# Altium integrated library ST Interface Stepper Motor Controller.IntLib: 19 symbols
Pins are listed as number, name and electrical type; pins without a type are passive.

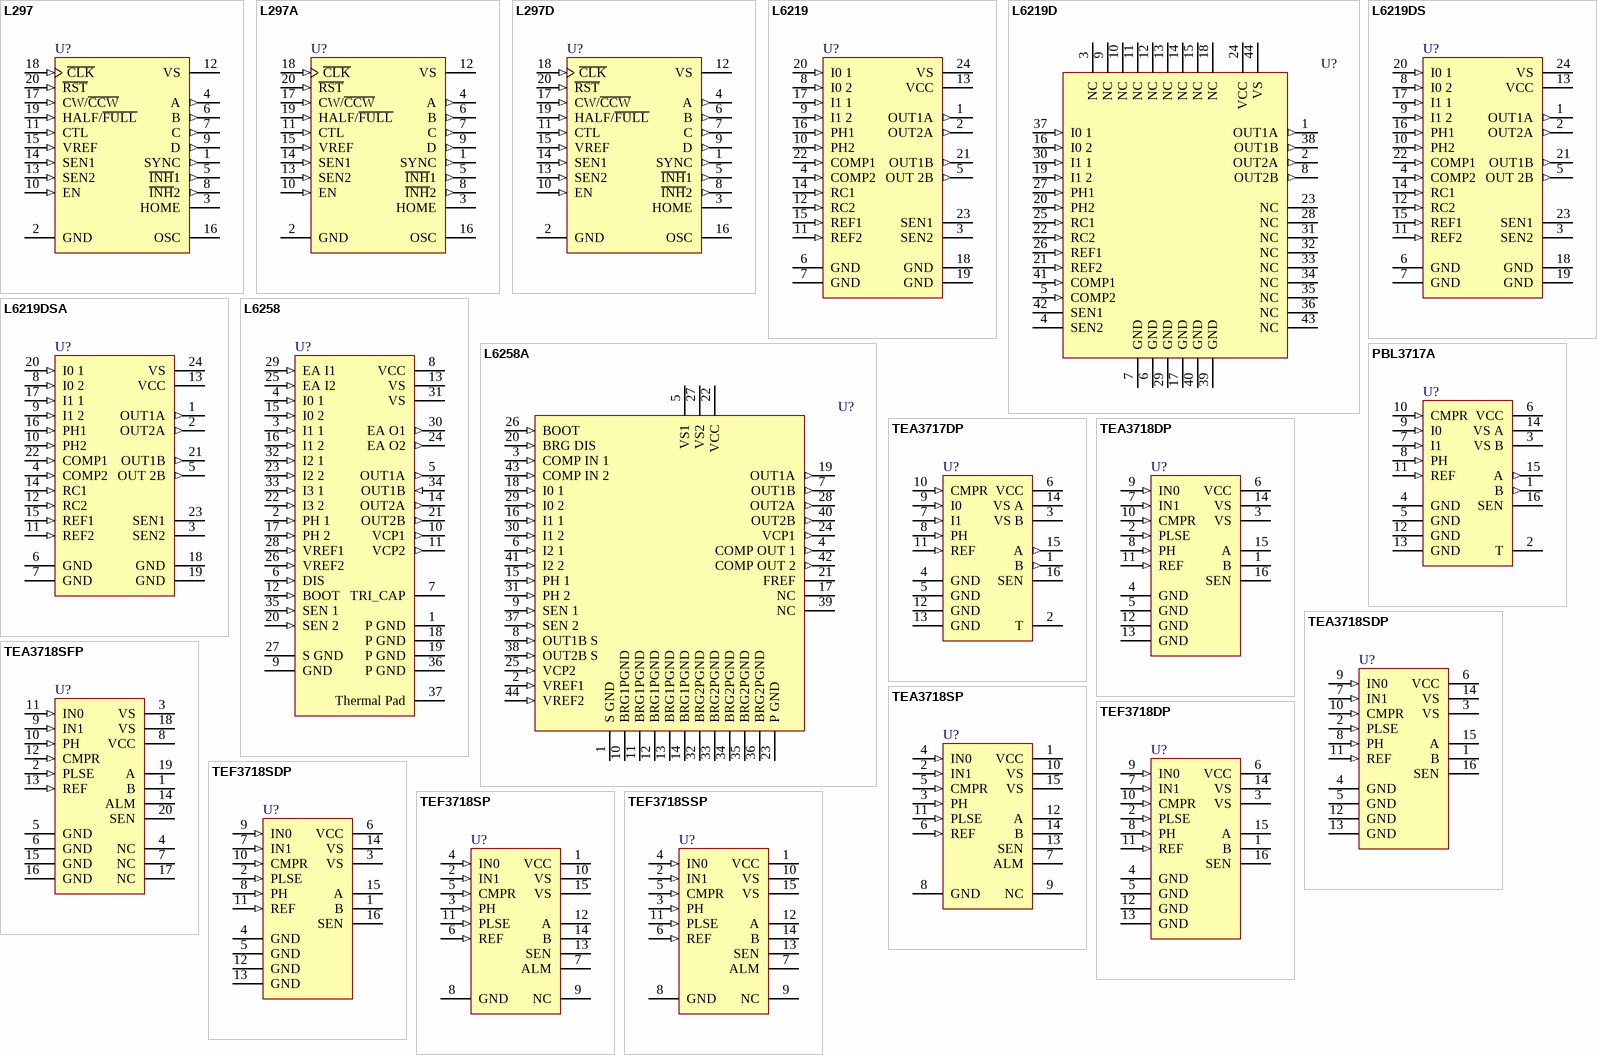
[diagram p0: symbols L297 to TEF3718SSP]

## L297
designator U?
Stepper Motor Controller; Published: 8-Jun-2000; LatestRevisionDate: 06-Jun-2005; LatestRevisionNote: Stylized 3D Model Added.; DatasheetVersion: Aug-1996; PackageVersion: Jun-1998; PackageReference: DIP20; Publisher: Altium Limited; PackageDescription: DIP; 20 Leads; Row Spacing 7.62 mm; Pitch 2.54 mm; Code_JEDEC: MS-015-AE; ComponentLink1Description: Manufacturer Link; ComponentLink1URL: http://www.st.com/; ComponentLink2Description: Datasheet; ComponentLink2URL: http://www.st.com/stonline/products/literature/ds/1334/l297.pdf
footprint DIP20 (DIP; 20 Leads; Row Spacing 7.62 mm; Pitch 2.54 mm)
3D model DIP20 (DIP; 20 Leads; Row Spacing 7.62 mm; Pitch 2.54 mm)
pins: 1 SYNC (out), 2 GND (power), 3 HOME (oc), 4 A (out), 5 ~{INH}1 (out), 6 B (out), 7 C (out), 8 ~{INH}2 (out), 9 D (out), 10 EN (in), 11 CTL (in), 12 VS (power), 13 SEN2 (in), 14 SEN1 (in), 15 VREF (in), 16 OSC, 17 CW/~{CCW} (in), 18 ~{CLK} (in), 19 HALF/~{FULL} (in), 20 ~{RST} (in)

## L297A
designator U?
Stepper Motor Controller; Published: 8-Jun-2000; LatestRevisionDate: 06-Jun-2005; LatestRevisionNote: Stylized 3D Model Added.; DatasheetVersion: Aug-1996; PackageVersion: Jun-1998; PackageReference: DIP20; Publisher: Altium Limited; PackageDescription: DIP; 20 Leads; Row Spacing 7.62 mm; Pitch 2.54 mm; Code_JEDEC: MS-015-AE; ComponentLink1Description: Manufacturer Link; ComponentLink1URL: http://www.st.com/; ComponentLink2Description: Datasheet; ComponentLink2URL: http://www.st.com/stonline/products/literature/ds/1334/l297.pdf
footprint DIP20 (DIP; 20 Leads; Row Spacing 7.62 mm; Pitch 2.54 mm)
3D model DIP20 (DIP; 20 Leads; Row Spacing 7.62 mm; Pitch 2.54 mm)
pins: 1 SYNC (out), 2 GND (power), 3 HOME (oc), 4 A (out), 5 ~{INH}1 (out), 6 B (out), 7 C (out), 8 ~{INH}2 (out), 9 D (out), 10 EN (in), 11 CTL (in), 12 VS (power), 13 SEN2 (in), 14 SEN1 (in), 15 VREF (in), 16 OSC, 17 CW/~{CCW} (in), 18 ~{CLK} (in), 19 HALF/~{FULL} (in), 20 ~{RST} (in)

## L297D
designator U?
Stepper Motor Controller; Published: 8-Jun-2000; LatestRevisionDate: 13-Apr-2006; LatestRevisionNote: IPC-7351 Footprint Added.; DatasheetVersion: Aug-1996; PackageVersion: Jul-2001; PackageReference: SO20; Publisher: Altium Limited; PackageDescription: 20-Pin Plastic Small Outline Integrated Circuit 1.27 mm Pitch; Code_JEDEC: MS-013-AC; Code_IPC: SOIC127P1030-20; ComponentLink1Description: Manufacturer Link; ComponentLink1URL: http://www.st.com/; ComponentLink2Description: Datasheet; ComponentLink2URL: http://www.st.com/stonline/products/literature/ds/1334/l297.pdf
footprint SO20_N (SOIC, 20-Leads, Body 12.8x7.5mm, Pitch 1.27mm, IPC Medium Density)
footprint SO20_L (SOIC, 20-Leads, Body 12.8x7.5mm, Pitch 1.27mm, IPC High Density)
footprint SO20_M (SOIC, 20-Leads, Body 12.8x7.5mm, Pitch 1.27mm, IPC Low Density)
3D model SO20 (20-Pin Plastic Small Outline Integrated Circuit 1.27 mm Pitch)
pins: 1 SYNC (out), 2 GND (power), 3 HOME (oc), 4 A (out), 5 ~{INH}1 (out), 6 B (out), 7 C (out), 8 ~{INH}2 (out), 9 D (out), 10 EN (in), 11 CTL (in), 12 VS (power), 13 SEN2 (in), 14 SEN1 (in), 15 VREF (in), 16 OSC, 17 CW/~{CCW} (in), 18 ~{CLK} (in), 19 HALF/~{FULL} (in), 20 ~{RST} (in)

## L6219
designator U?
Stepper Motor Driver; Published: 8-Jun-2000; LatestRevisionDate: 06-Jun-2005; LatestRevisionNote: Stylized 3D Model Added.; DatasheetVersion: Dec-1996; PackageVersion: Mar-1992; PackageReference: DIP24; Publisher: Altium Limited; PackageDescription: DIP; 24 Leads; Row Spacing 7.62 mm; Pitch 2.54 mm; Code_JEDEC: MS-001-AF; ComponentLink1Description: Manufacturer Link; ComponentLink1URL: http://www.st.com/; ComponentLink2Description: Datasheet; ComponentLink2URL: http://www.st.com/stonline/products/literature/ds/1377/l6219.pdf
footprint DIP24 (DIP; 24 Leads; Row Spacing 7.62 mm; Pitch 2.54 mm)
3D model DIP24 (DIP; 24 Leads; Row Spacing 7.62 mm; Pitch 2.54 mm)
pins: 1 OUT1A (out), 2 OUT2A (out), 3 SEN2, 4 COMP2 (in), 5 OUT 2B (out), 6 GND (power), 7 GND (power), 8 I0 2 (in), 9 I1 2 (in), 10 PH2 (in), 11 REF2 (in), 12 RC2 (in), 13 VCC (power), 14 RC1 (in), 15 REF1 (in), 16 PH1 (in), 17 I1 1 (in), 18 GND (power), 19 GND (power), 20 I0 1 (in), 21 OUT1B (out), 22 COMP1 (in), 23 SEN1, 24 VS (power)

## L6219D
designator U?
Stepper Motor Driver; Published: 8-Jun-2000; LatestRevisionDate: 13-Apr-2006; LatestRevisionNote: IPC-7351 Footprint Added.; DatasheetVersion: Dec-1996; PackageVersion: Feb-1997; PackageReference: PLCC44A; Publisher: Altium Limited; PackageDescription: 44-Pin Leaded Chip Carrier 1.27 mm Pitch; Code_IPC: PLCC-44; ComponentLink1Description: Manufacturer Link; ComponentLink1URL: http://www.st.com/
footprint PLCC44A_N (Leaded Chip Carrier, 44-Leads, Body 16.6x16.6mm, Pitch 1.27mm, IPC Medium Density)
footprint PLCC44A_L (Leaded Chip Carrier, 44-Leads, Body 16.6x16.6mm, Pitch 1.27mm, IPC High Density)
footprint PLCC44A_M (Leaded Chip Carrier, 44-Leads, Body 16.6x16.6mm, Pitch 1.27mm, IPC Low Density)
3D model L6219D-PLCC44 (44-Pin Leaded Chip Carrier 1.27 mm Pitch)
pins: 1 OUT1A (out), 2 OUT2A (out), 3 NC, 4 SEN2, 5 COMP2 (in), 6 GND (power), 7 GND (power), 8 OUT2B (out), 9 NC, 10 NC, 11 NC, 12 NC, 13 NC, 14 NC, 15 NC, 16 I0 2 (in), 17 GND (power), 18 NC, 19 I1 2 (in), 20 PH2 (in), 21 REF2 (in), 22 RC2 (in), 23 NC, 24 VCC (power), 25 RC1 (in), 26 REF1 (in), 27 PH1 (in), 28 NC, 29 GND (power), 30 I1 1 (in), 31 NC, 32 NC, 33 NC, 34 NC, 35 NC, 36 NC, 37 I0 1 (in), 38 OUT1B (out), 39 GND (power), 40 GND (power), 41 COMP1 (in), 42 SEN1, 43 NC, 44 VS (power)

## L6219DS
designator U?
Stepper Motor Driver; Published: 8-Jun-2000; LatestRevisionDate: 13-Apr-2006; LatestRevisionNote: IPC-7351 Footprint Added.; DatasheetVersion: Dec-1996; PackageVersion: Oct-2001; PackageReference: SO24; Publisher: Altium Limited; PackageDescription: 24-Pin Plastic Small Outline Integrated Circuit 1.27 mm Pitch; ComponentLink1Description: Manufacturer Link; ComponentLink1URL: http://www.st.com/; ComponentLink2Description: Datasheet; ComponentLink2URL: http://www.st.com/stonline/products/literature/ds/1377/l6219.pdf
footprint SO24_N (SOIC, 24-Leads, Body 15.4x7.5mm, Pitch 1.27mm, IPC Medium Density)
footprint SO24_L (SOIC, 24-Leads, Body 15.4x7.5mm, Pitch 1.27mm, IPC High Density)
footprint SO24_M (SOIC, 24-Leads, Body 15.4x7.5mm, Pitch 1.27mm, IPC Low Density)
3D model SO24 (24-Pin Plastic Small Outline Integrated Circuit 1.27 mm Pitch)
pins: 1 OUT1A (out), 2 OUT2A (out), 3 SEN2, 4 COMP2 (in), 5 OUT 2B (out), 6 GND (power), 7 GND (power), 8 I0 2 (in), 9 I1 2 (in), 10 PH2 (in), 11 REF2 (in), 12 RC2 (in), 13 VCC (power), 14 RC1 (in), 15 REF1 (in), 16 PH1 (in), 17 I1 1 (in), 18 GND (power), 19 GND (power), 20 I0 1 (in), 21 OUT1B (out), 22 COMP1 (in), 23 SEN1, 24 VS (power)

## L6219DSA
designator U?
Stepper Motor Driver For Automotive Range; Published: 8-Jun-2000; LatestRevisionDate: 13-Apr-2006; LatestRevisionNote: IPC-7351 Footprint Added.; DatasheetVersion: Nov-1998; PackageVersion: Oct-2001; PackageReference: SO24; Publisher: Altium Limited; PackageDescription: 24-Pin Plastic Small Outline Integrated Circuit 1.27 mm Pitch; ComponentLink1Description: Manufacturer Link; ComponentLink1URL: http://www.st.com/; ComponentLink2Description: Datasheet; ComponentLink2URL: http://www.st.com/stonline/products/literature/ds/4970/l6219dsa.pdf
footprint SO24_N (SOIC, 24-Leads, Body 15.4x7.5mm, Pitch 1.27mm, IPC Medium Density)
footprint SO24_L (SOIC, 24-Leads, Body 15.4x7.5mm, Pitch 1.27mm, IPC High Density)
footprint SO24_M (SOIC, 24-Leads, Body 15.4x7.5mm, Pitch 1.27mm, IPC Low Density)
3D model SO24 (24-Pin Plastic Small Outline Integrated Circuit 1.27 mm Pitch)
pins: 1 OUT1A (out), 2 OUT2A (out), 3 SEN2, 4 COMP2 (in), 5 OUT 2B (out), 6 GND (power), 7 GND (power), 8 I0 2 (in), 9 I1 2 (in), 10 PH2 (in), 11 REF2 (in), 12 RC2 (in), 13 VCC (power), 14 RC1 (in), 15 REF1 (in), 16 PH1 (in), 17 I1 1 (in), 18 GND (power), 19 GND (power), 20 I0 1 (in), 21 OUT1B (out), 22 COMP1 (in), 23 SEN1, 24 VS (power)

## L6258
designator U?
PWM Controlled High Current DMOS Universal Motor Driver; Published: 8-Jun-2000; LatestRevisionDate: 27-Jun-2008; LatestRevisionNote: Slug Added.; DatasheetVersion: Jan-1999; PackageVersion: Mar-2003; PackageReference: PowerSO-36; Publisher: Altium Limited; PackageDescription: 36-Pin Power Small Outline Package 0.65 mm Pitch with Heat Sink; Code_JEDEC: MO-166; ComponentLink1Description: Manufacturer Link; ComponentLink1URL: http://www.st.com/; ComponentLink2Description: Datasheet; ComponentLink2URL: http://www.st.com/stonline/products/literature/ds/4588/l6258.pdf
footprint PowerSO-36_N (SOP, 36-Leads, Body 15.9x11mm, Pitch 0.65mm, Slug, IPC Medium Density)
footprint PowerSO-36_L (SOP, 36-Leads, Body 15.9x11mm, Pitch 0.65mm, Slug, IPC High Density)
footprint PowerSO-36_M (SOP, 36-Leads, Body 15.9x11mm, Pitch 0.65mm, Slug, IPC Low Density)
pins: 1 P GND (power), 2 PH 1 (in), 3 I1 1 (in), 4 I0 1 (in), 5 OUT1A (out), 6 DIS (in), 7 TRI_CAP, 8 VCC (power), 9 GND (power), 10 VCP1 (out), 11 VCP2 (out), 12 BOOT (in), 13 VS (power), 14 OUT2A (out), 15 I0 2 (in), 16 I1 2 (in), 17 PH 2 (in), 18 P GND (power), 19 P GND (power), 20 SEN 2 (in), 21 OUT2B (out), 22 I3 2 (in), 23 I2 2 (in), 24 EA O2 (out), 25 EA I2 (in), 26 VREF2 (in), 27 S GND (power), 28 VREF1 (in), 29 EA I1 (in), 30 EA O1 (out), 31 VS (power), 32 I2 1 (in), 33 I3 1 (in), 34 OUT1B (in), 35 SEN 1 (in), 36 P GND (power), 37 Thermal Pad

## L6258A
designator U?
PWM Controlled High Current DMOS Universal Motor Driver; Published: 8-Jun-2000; LatestRevisionDate: 13-Apr-2006; LatestRevisionNote: IPC-7351 Footprint Added.; DatasheetVersion: Oct-1996; PackageVersion: Feb-1997; PackageReference: PLCC44A; Publisher: Altium Limited; PackageDescription: 44-Pin Leaded Chip Carrier 1.27 mm Pitch; Code_IPC: PLCC-44; ComponentLink1Description: Manufacturer Link; ComponentLink1URL: http://www.st.com/
footprint PLCC44A_N (Leaded Chip Carrier, 44-Leads, Body 16.6x16.6mm, Pitch 1.27mm, IPC Medium Density)
footprint PLCC44A_L (Leaded Chip Carrier, 44-Leads, Body 16.6x16.6mm, Pitch 1.27mm, IPC High Density)
footprint PLCC44A_M (Leaded Chip Carrier, 44-Leads, Body 16.6x16.6mm, Pitch 1.27mm, IPC Low Density)
3D model L6258A-PLCC44 (44-Pin Leaded Chip Carrier 1.27 mm Pitch)
pins: 1 S GND (power), 2 VREF1 (in), 3 COMP IN 1 (in), 4 COMP OUT 1 (out), 5 VS1 (power), 6 I2 1 (in), 7 OUT1B (out), 8 OUT1B S (in), 9 SEN 1 (in), 10 BRG1PGND (power), 11 BRG1PGND (power), 12 BRG1PGND (power), 13 BRG1PGND (power), 14 BRG1PGND (power), 15 PH 1 (in), 16 I1 1 (in), 17 NC, 18 I0 1 (in), 19 OUT1A (out), 20 BRG DIS (in), 21 FREF, 22 VCC (power), 23 P GND (power), 24 VCP1 (out), 25 VCP2 (in), 26 BOOT (in), 27 VS2 (power), 28 OUT2A (out), 29 I0 2 (in), 30 I1 2 (in), 31 PH 2 (in), 32 BRG2PGND (power), 33 BRG2PGND (power), 34 BRG2PGND (power), 35 BRG2PGND (power), 36 BRG2PGND (power), 37 SEN 2 (in), 38 OUT2B S (in), 39 NC, 40 OUT2B (out), 41 I2 2 (in), 42 COMP OUT 2 (out), 43 COMP IN 2 (in), 44 VREF2 (in)

## PBL3717A
designator U?
Stepper Motor Driver; Published: 8-Jun-2000; LatestRevisionDate: 06-Jun-2005; LatestRevisionNote: Stylized 3D Model Added.; DatasheetVersion: Apr-1993; PackageVersion: Apr-1996; PackageReference: DIP16; Publisher: Altium Limited; PackageDescription: DIP; 16 Leads; Row Spacing 7.62 mm; Pitch 2.54 mm; ComponentLink1Description: Manufacturer Link; ComponentLink1URL: http://www.st.com/; ComponentLink2Description: Datasheet; ComponentLink2URL: http://www.st.com/stonline/products/literature/ds/1430/pbl3717a.pdf
footprint DIP16 (DIP; 16 Leads; Row Spacing 7.62 mm; Pitch 2.54 mm)
3D model DIP16 (DIP; 16 Leads; Row Spacing 7.62 mm; Pitch 2.54 mm)
pins: 1 B (out), 2 T, 3 VS B (power), 4 GND (power), 5 GND (power), 6 VCC (power), 7 I1 (in), 8 PH (in), 9 I0 (in), 10 CMPR (in), 11 REF (in), 12 GND (power), 13 GND (power), 14 VS A (power), 15 A (out), 16 SEN (oe)

## TEA3717DP
designator U?
Stepper Motor Driver; Published: 8-Jun-2000; LatestRevisionDate: 06-Jun-2005; LatestRevisionNote: Stylized 3D Model Added.; DatasheetVersion: Apr-1993; PackageVersion: Apr-1996; PackageReference: DIP16; Publisher: Altium Limited; PackageDescription: DIP; 16 Leads; Row Spacing 7.62 mm; Pitch 2.54 mm; ComponentLink1Description: Manufacturer Link; ComponentLink1URL: http://www.st.com/; ComponentLink2Description: Datasheet; ComponentLink2URL: http://www.st.com/stonline/products/literature/ds/1524/tea3717.pdf
footprint DIP16 (DIP; 16 Leads; Row Spacing 7.62 mm; Pitch 2.54 mm)
3D model DIP16 (DIP; 16 Leads; Row Spacing 7.62 mm; Pitch 2.54 mm)
pins: 1 B (out), 2 T, 3 VS B (power), 4 GND (power), 5 GND (power), 6 VCC (power), 7 I1 (in), 8 PH (in), 9 I0 (in), 10 CMPR (in), 11 REF (in), 12 GND (power), 13 GND (power), 14 VS A (power), 15 A (out), 16 SEN (oe)

## TEA3718DP
designator U?
Stepper Motor Driver; Published: 8-Jun-2000; LatestRevisionDate: 06-Jun-2005; LatestRevisionNote: Stylized 3D Model Added.; DatasheetVersion: Dec-1991; PackageVersion: Apr-1996; PackageReference: DIP16; Publisher: Altium Limited; PackageDescription: DIP; 16 Leads; Row Spacing 7.62 mm; Pitch 2.54 mm; ComponentLink1Description: Manufacturer Link; ComponentLink1URL: http://www.st.com/; ComponentLink2Description: Datasheet; ComponentLink2URL: http://www.st.com/stonline/products/literature/ds/1525/tea3718.pdf
footprint DIP16 (DIP; 16 Leads; Row Spacing 7.62 mm; Pitch 2.54 mm)
3D model DIP16 (DIP; 16 Leads; Row Spacing 7.62 mm; Pitch 2.54 mm)
pins: 1 B (oe), 2 PLSE (in), 3 VS (power), 4 GND (power), 5 GND (power), 6 VCC (power), 7 IN1 (in), 8 PH (in), 9 IN0 (in), 10 CMPR (in), 11 REF (in), 12 GND (power), 13 GND (power), 14 VS (power), 15 A (oe), 16 SEN (oe)

## TEA3718SDP
designator U?
Stepper Motor Driver; Published: 8-Jun-2000; LatestRevisionDate: 06-Jun-2005; LatestRevisionNote: Stylized 3D Model Added.; DatasheetVersion: Dec-1991; PackageVersion: Apr-1996; PackageReference: DIP16; Publisher: Altium Limited; PackageDescription: DIP; 16 Leads; Row Spacing 7.62 mm; Pitch 2.54 mm; ComponentLink1Description: Manufacturer Link; ComponentLink1URL: http://www.st.com/; ComponentLink2Description: Datasheet; ComponentLink2URL: http://www.st.com/stonline/products/literature/ds/1525/tea3718.pdf
footprint DIP16 (DIP; 16 Leads; Row Spacing 7.62 mm; Pitch 2.54 mm)
3D model DIP16 (DIP; 16 Leads; Row Spacing 7.62 mm; Pitch 2.54 mm)
pins: 1 B (oe), 2 PLSE (in), 3 VS (power), 4 GND (power), 5 GND (power), 6 VCC (power), 7 IN1 (in), 8 PH (in), 9 IN0 (in), 10 CMPR (in), 11 REF (in), 12 GND (power), 13 GND (power), 14 VS (power), 15 A (oe), 16 SEN (oe)

## TEA3718SFP
designator U?
Stepper Motor Driver; Published: 8-Jun-2000; LatestRevisionDate: 13-Apr-2006; LatestRevisionNote: IPC-7351 Footprint Added.; DatasheetVersion: Dec-1991; PackageVersion: Jul-2001; PackageReference: SO20; Publisher: Altium Limited; PackageDescription: 20-Pin Plastic Small Outline Integrated Circuit 1.27 mm Pitch; Code_JEDEC: MS-013-AC; Code_IPC: SOIC127P1030-20; ComponentLink1Description: Manufacturer Link; ComponentLink1URL: http://www.st.com/; ComponentLink2Description: Datasheet; ComponentLink2URL: http://www.st.com/stonline/products/literature/ds/1525/tea3718.pdf
footprint SO20_N (SOIC, 20-Leads, Body 12.8x7.5mm, Pitch 1.27mm, IPC Medium Density)
footprint SO20_L (SOIC, 20-Leads, Body 12.8x7.5mm, Pitch 1.27mm, IPC High Density)
footprint SO20_M (SOIC, 20-Leads, Body 12.8x7.5mm, Pitch 1.27mm, IPC Low Density)
3D model SO20 (20-Pin Plastic Small Outline Integrated Circuit 1.27 mm Pitch)
pins: 1 B (oe), 2 PLSE (in), 3 VS (power), 4 NC, 5 GND (power), 6 GND (power), 7 NC, 8 VCC (power), 9 IN1 (in), 10 PH (in), 11 IN0 (in), 12 CMPR (in), 13 REF (in), 14 ALM (oc), 15 GND (power), 16 GND (power), 17 NC, 18 VS (power), 19 A (oe), 20 SEN (oe)

## TEA3718SP
designator U?
Stepper Motor Driver; Published: 8-Jun-2000; LatestRevisionDate: 17-Jul-2002; LatestRevisionNote: Re-released for DXP Platform.; DatasheetVersion: Dec-1991; PackageReference: Multiwatt15V; Publisher: Altium Limited; PackageDescription: TO, Thru-Hole, Vertical, Heatsink Mounted; 15 Bent Staggered Leads; Pitch 1.27 mm; ComponentLink1Description: Manufacturer Link; ComponentLink1URL: http://www.st.com/; ComponentLink2Description: Datasheet; ComponentLink2URL: http://www.st.com/stonline/products/literature/ds/1525/tea3718.pdf
footprint Multiwatt15V (TO, Thru-Hole, Vertical, Heatsink Mounted; 15 Bent Staggered Leads; Pitch 1.27 mm)
pins: 1 VCC (power), 2 IN1 (in), 3 PH (in), 4 IN0 (in), 5 CMPR (in), 6 REF (in), 7 ALM (oc), 8 GND (power), 9 NC, 10 VS (power), 11 PLSE (in), 12 A (oe), 13 SEN (oe), 14 B (oe), 15 VS (power)

## TEF3718DP
designator U?
Stepper Motor Driver; Published: 8-Jun-2000; LatestRevisionDate: 06-Jun-2005; LatestRevisionNote: Stylized 3D Model Added.; DatasheetVersion: Oct-1991; PackageVersion: Apr-1996; PackageReference: DIP16; Publisher: Altium Limited; PackageDescription: DIP; 16 Leads; Row Spacing 7.62 mm; Pitch 2.54 mm; ComponentLink1Description: Manufacturer Link; ComponentLink1URL: http://www.st.com/
footprint DIP16 (DIP; 16 Leads; Row Spacing 7.62 mm; Pitch 2.54 mm)
3D model DIP16 (DIP; 16 Leads; Row Spacing 7.62 mm; Pitch 2.54 mm)
pins: 1 B (oe), 2 PLSE (in), 3 VS (power), 4 GND (power), 5 GND (power), 6 VCC (power), 7 IN1 (in), 8 PH (in), 9 IN0 (in), 10 CMPR (in), 11 REF (in), 12 GND (power), 13 GND (power), 14 VS (power), 15 A (oe), 16 SEN (oe)

## TEF3718SDP
designator U?
Stepper Motor Driver; Published: 8-Jun-2000; LatestRevisionDate: 06-Jun-2005; LatestRevisionNote: Stylized 3D Model Added.; DatasheetVersion: Oct-1991; PackageVersion: Apr-1996; PackageReference: DIP16; Publisher: Altium Limited; PackageDescription: DIP; 16 Leads; Row Spacing 7.62 mm; Pitch 2.54 mm; ComponentLink1Description: Manufacturer Link; ComponentLink1URL: http://www.st.com/
footprint DIP16 (DIP; 16 Leads; Row Spacing 7.62 mm; Pitch 2.54 mm)
3D model DIP16 (DIP; 16 Leads; Row Spacing 7.62 mm; Pitch 2.54 mm)
pins: 1 B (oe), 2 PLSE (in), 3 VS (power), 4 GND (power), 5 GND (power), 6 VCC (power), 7 IN1 (in), 8 PH (in), 9 IN0 (in), 10 CMPR (in), 11 REF (in), 12 GND (power), 13 GND (power), 14 VS (power), 15 A (oe), 16 SEN (oe)

## TEF3718SP
designator U?
Stepper Motor Driver; Published: 8-Jun-2000; LatestRevisionDate: 17-Jul-2002; LatestRevisionNote: Re-released for DXP Platform.; DatasheetVersion: Oct-1991; PackageReference: Multiwatt15V; Publisher: Altium Limited; PackageDescription: TO, Thru-Hole, Vertical, Heatsink Mounted; 15 Bent Staggered Leads; Pitch 1.27 mm; ComponentLink1Description: Manufacturer Link; ComponentLink1URL: http://www.st.com/
footprint Multiwatt15V (TO, Thru-Hole, Vertical, Heatsink Mounted; 15 Bent Staggered Leads; Pitch 1.27 mm)
pins: 1 VCC (power), 2 IN1 (in), 3 PH (in), 4 IN0 (in), 5 CMPR (in), 6 REF (in), 7 ALM (oc), 8 GND (power), 9 NC, 10 VS (power), 11 PLSE (in), 12 A (oe), 13 SEN (oe), 14 B (oe), 15 VS (power)

## TEF3718SSP
designator U?
Stepper Motor Driver; Published: 8-Jun-2000; LatestRevisionDate: 17-Jul-2002; LatestRevisionNote: Re-released for DXP Platform.; DatasheetVersion: Oct-1991; PackageReference: Multiwatt15V; Publisher: Altium Limited; PackageDescription: TO, Thru-Hole, Vertical, Heatsink Mounted; 15 Bent Staggered Leads; Pitch 1.27 mm; ComponentLink1Description: Manufacturer Link; ComponentLink1URL: http://www.st.com/
footprint Multiwatt15V (TO, Thru-Hole, Vertical, Heatsink Mounted; 15 Bent Staggered Leads; Pitch 1.27 mm)
pins: 1 VCC (power), 2 IN1 (in), 3 PH (in), 4 IN0 (in), 5 CMPR (in), 6 REF (in), 7 ALM (oc), 8 GND (power), 9 NC, 10 VS (power), 11 PLSE (in), 12 A (oe), 13 SEN (oe), 14 B (oe), 15 VS (power)